# Altium schematic symbol library TAUV-Lib.SchLib: 493 symbols (part 2 of 5)
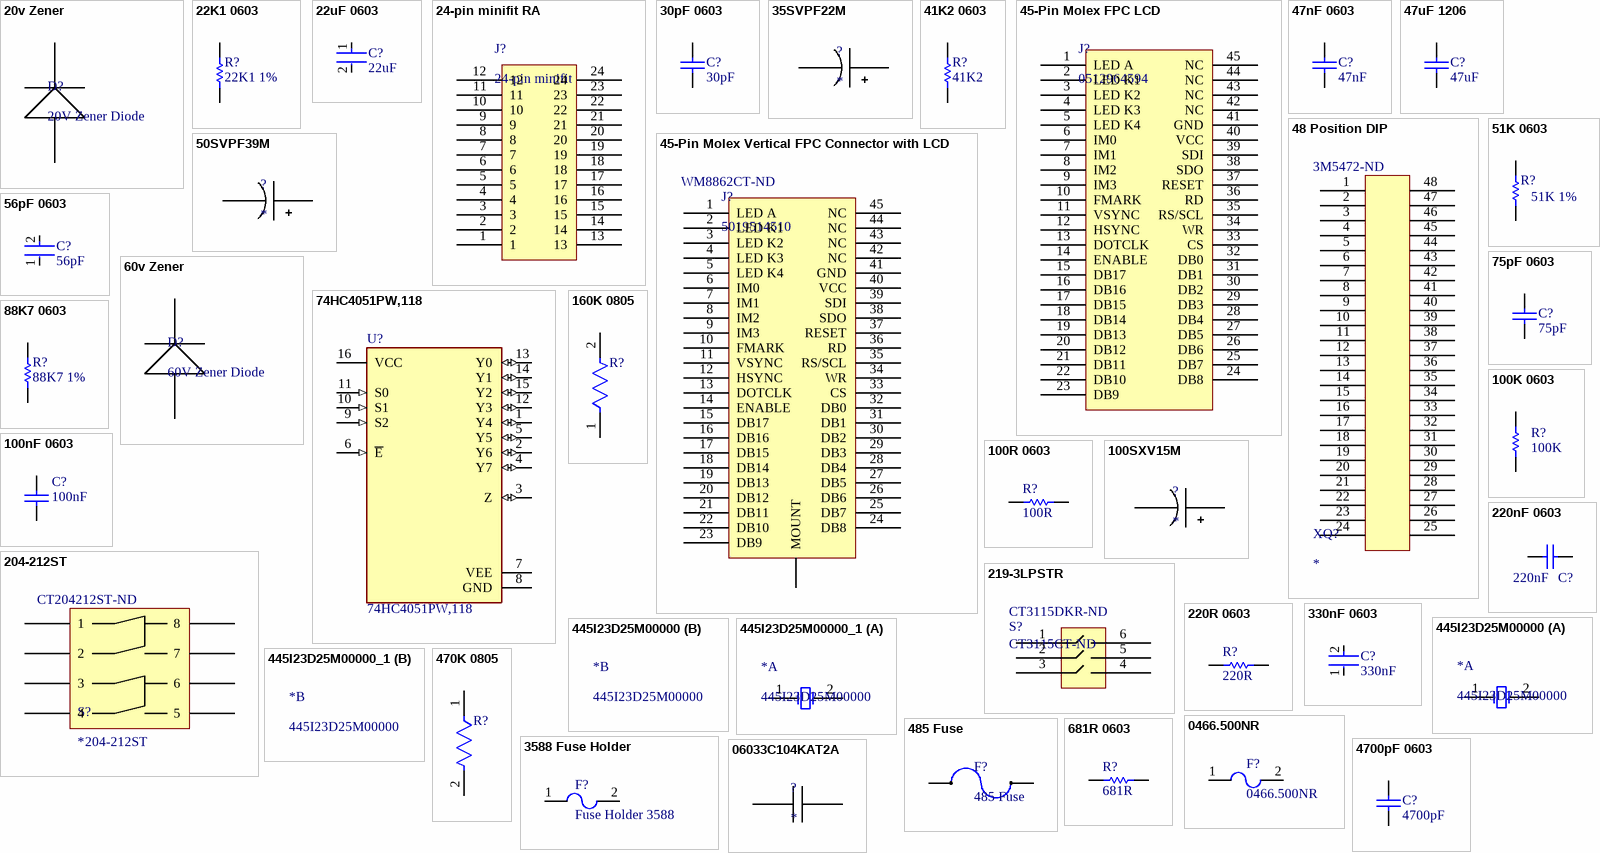
[diagram p15: symbols 20v Zener to 06033C104KAT2A]

## 220R 0603
designator R?, comment 220R
220R 0.1W 5% 0603 (1608 Metric)  SMD; Case-EIA: 0603; Case-Metric: 1608; Value: 220.00 Ohm; Technology: SMT; Power: 0.1 W; Tolerance: 5 %; ComponentLink1Description: Link; ComponentLink1URL: https://www.digikey.com/en/products/detail/te-connectivity-passive-product/CRGCQ0603J220R/8576689
footprint RESC0603(1608)_M (Chip Resistor, Body 1.6x0.8mm, IPC Low Density)
footprint RESC0603(1608)_N (Chip Resistor, Body 1.6x0.8mm, IPC Medium Density)
footprint RESC0603(1608)_L (Chip Resistor, Body 1.6x0.8mm, IPC High Density)
footprint 0603
pins: 1, 2
1 alternate drawing of the same symbol

## 330nF 0603
designator C?, comment 330nF
Multilayer Ceramic Capacitors 330nF ±10% 50V X7R SMD 0603; Capacitance: 330nF; Case Code (Imperial): 0603; Case Code (Metric): 1608; Dielectric: X7R; Length: 1.6mm; Construction: Flat; Resistor Type: Ceramic; Mount: Surface Mount; Voltage Rating: 50V; Packaging: Tape and Reel; Series: C; Case/Package: 0603; Lead Free: Lead Free; Tolerance: 10%; Voltage: 50V; REACH SVHC: No SVHC; Height: 0.8mm; Weight: 7.1E-05oz; Termination: SMD/SMT; Max Operating Temperature: 125°C; RoHS Compliant: Yes; Min Operating Temperature: -55°C; Depth: 0.8mm; Package Quantity: 1; Thickness: 0.037inch; Voltage Rating (DC): 50V; Dielectric Material: Ceramic; Width: 0.031inch; ComponentLink1Description: Link; ComponentLink1URL: https://www.digikey.com/en/products/detail/tdk-corporation/C1608X7R1H334K080AC/2443428
footprint FP-C1608-080-0_1-IPC_B
footprint FP-C1608-080-0_1-IPC_C
footprint FP-C1608-080-0_1-MFG
footprint FP-C1608-080-0_1-IPC_A
footprint 0603
pins: 1, 2

## 445I23D25M00000
designator *
CTS M445 2-SMT Crystal, 25MHz; Manufacturer: CTS-Frequency Controls; Supplier 1: Mouser; Supplier 2: Digi-Key; Supplier 3: Digi-Key; Supplier 4: Digi-Key; Frequency: 25 MHz; Part Number: 445I23D25M00000; Supplier 5: Digi-Key; Supplier 6: Mouser; Supplier 7: Digi-Key; Supplier 8: Digi-Key; Supplier Part Number 5: CTX1175TR-ND; Supplier Part Number 6: 774-445I23D25M00000; Supplier Part Number 7: CTX1175CT-ND; Supplier Part Number 8: CTX1175DKR-ND
footprint 445I23D25M00000 (2-SMD 5x3.2)
part A pins: 1, 2

## 445I23D25M00000_1
designator *, comment 445I23D25M00000
CTS M445 2-SMT Crystal, 25MHz; Manufacturer: CTS-Frequency Controls; Supplier 1: Mouser; Supplier 2: Digi-Key; Supplier 3: Digi-Key; Supplier 4: Digi-Key; Frequency: 25 MHz; Part Number: 445I23D25M00000; Supplier 5: Digi-Key; Supplier 6: Mouser; Supplier 7: Digi-Key; Supplier 8: Digi-Key; Supplier Part Number 5: CTX1175TR-ND; Supplier Part Number 6: 774-445I23D25M00000; Supplier Part Number 7: CTX1175CT-ND; Supplier Part Number 8: CTX1175DKR-ND
footprint 445I23D25M00000 (2-SMD 5x3.2)
part A pins: 1, 2

## 0466.500NR
designator F?
FUSE BOARD MOUNT 500MA 63VAC/VDC; Supplier: DigiKey; Part Number: 0466.500NR; Supplier Part Number: F1454CT-ND; Datasheet URL: http://www.littelfuse.com/~/media/electronics/datasheets/fuses/littelfuse_fuse_466_datasheet.pdf.pdf
footprint 0466.500NR (, 2-Leads, Body 3.18x1.52mm, IPC Medium Density)
pins: 1, 2

## 470K 0805
designator R?, comment 470K  (value not drawn)
RES Thick Film, 470kΩ, 1%, 0.125W, 100ppm/°C, 0805; Power Rating: 125mW; Voltage Rating (DC): 150V; Depth: 1.25mm; Voltage Rating: 150V; Composition: Thick Film; Temperature Coefficient: 100ppm/°C; Max Operating Temperature: 155°C; Min Operating Temperature: -55°C; Package Quantity: 10; Width: 0.049inch; Number of Pins: 2; Length: 2mm; Case Code (Metric): 2012; Weight: 0.000194oz; Features: Automotive AEC-Q200; Number of Terminations: 2; Radiation Hardening: No; Height: 0.45mm; Military Standard: Not; Tolerance: 1%; Lead Free: Lead Free; Termination: SMD/SMT; Case Code (Imperial): 0805; Case/Package: 0805; Contact Plating: Tin; Packaging: Tape and Reel; Max Power Dissipation: 125mW; ComponentLink1Description: Link; ComponentLink1URL: https://www.digikey.com/en/products/detail/yageo/RC0805FR-07470KL/727977
footprint FP-CRCW0805-e3-IPC_C
footprint FP-CRCW0805-e3-IPC_A
footprint FP-CRCW0805-e3-IPC_B
footprint FP-CRCW0805-e3-MFG
footprint 0805
pins: 1, 2

## 485 Fuse
designator F?
485 Series Fast-Blow Fuse; Part Number: 0485001.DR; Voltage Rating: 600V; Current Rating: 1A; Datasheet: http://www.littelfuse.com/~/media/electronics/datasheets/fuses/littelfuse_fuse_485_datasheet.pdf.pdf; Package: 2-SMD
footprint 485 Fuse (485 Series Fast-Blow Fuse)
pins: 1, 2

## 681R 0603
designator R?, comment 681R
681R 0.1W 1% 0603 (1608 Metric)  SMD; Value: 681.00 Ohm; Case-Metric: 1608; Case-EIA: 0603; Technology: SMT; Tolerance: 1 %; Power: 0.1 W; ComponentLink1Description: Link; ComponentLink1URL: https://www.digikey.com/en/products/detail/yageo/RC0603FR-07681RL/727357
footprint RESC0603(1608)_L (Chip Resistor, Body 1.6x0.8mm, IPC High Density)
footprint RESC0603(1608)_N (Chip Resistor, Body 1.6x0.8mm, IPC Medium Density)
footprint RESC0603(1608)_M (Chip Resistor, Body 1.6x0.8mm, IPC Low Density)
footprint 0603
pins: 1, 2
1 alternate drawing of the same symbol

## 3588 Fuse Holder
designator F?, comment Fuse Holder 3588
Keystone Electronics 3588; Supplier 1: Digi-Key; Supplier Part Number 1: 36-3588-ND; Datasheet: http://keyelco.com/userAssets/file/M65p43.pdf
footprint Fuse Holder 3588 (Keystone Electronics 3588 Automotive Blade Fuse Holder, SMT)
pins: 1, 2

## 4700pF 0603
designator C?, comment 4700pF
4700pF 0603; Part Number: GRM188R72A472KA01D; Manufacturer: Murata; ComponentLink1Description: Link; ComponentLink1URL: https://www.digikey.com/en/products/detail/walsin-technology-corporation/0603B472J500CT/9354937
footprint CAPC1608X90X35ML10T15 (Chip Capacitor, 2-Leads, Body 1.60x0.80mm, IPC Low Density)
footprint CAPC1608X90X35LL10T15 (Chip Capacitor, 2-Leads, Body 1.60x0.80mm, IPC High Density)
footprint CAPC1608X90X35NL10T15 (Chip Capacitor, 2-Leads, Body 1.60x0.80mm, IPC Medium Density)
footprint 0603
pins: 1, 2
1 alternate drawing of the same symbol

## 06033C104KAT2A
designator ?
No Description Available; Manufacturer_Part_Number: 06033C104KAT2A; Cap: 1.0E-7; ESR: 0.05; IRMS: 0.0; VDC: 25.0; Vendor: AVX; Manufacturer_Name: AVX; Copyright: Copyright (C) 2018 Accelerated Designs. All rights reserved; RefDes: RefDes; Type: DEV; Value: Value
footprint 0603
pins: 1, 2

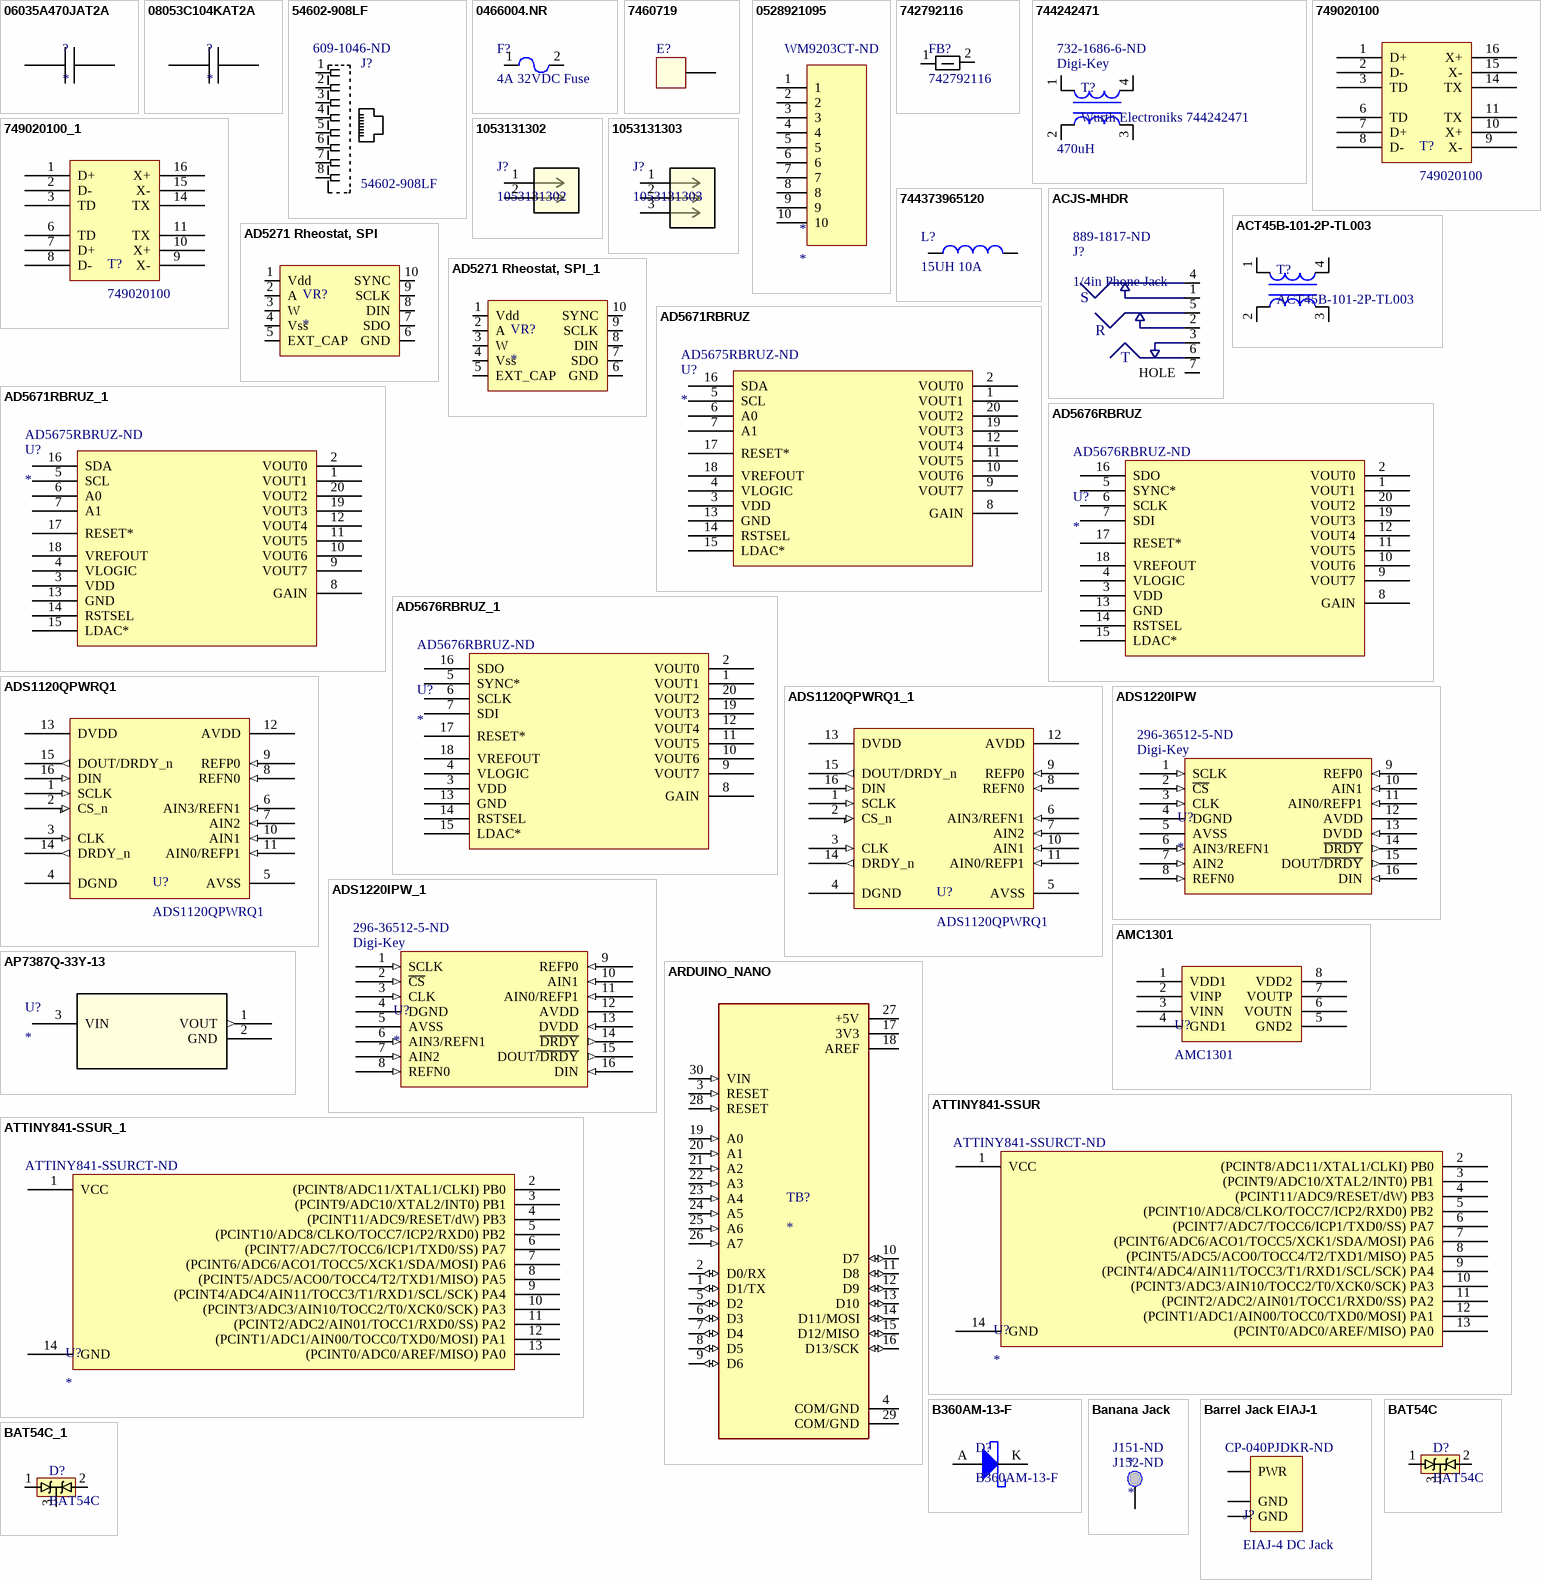
[diagram p3: symbols 06035A470JAT2A to BAT54C_1]

## 06035A470JAT2A
designator ?
No Description Available; Manufacturer_Part_Number: 06035A470JAT2A; Cap: 4.7E-11; ESR: 0.174; IRMS: 0.0; VDC: 50.0; Vendor: AVX; Manufacturer_Name: AVX; Copyright: Copyright (C) 2018 Accelerated Designs. All rights reserved; RefDes: RefDes; Type: DEV; Value: Value
footprint 0603
pins: 1, 2

## 08053C104KAT2A
designator ?
No Description Available; Manufacturer_Part_Number: 08053C104KAT2A; Cap: 1.0E-7; ESR: 0.28; IRMS: 0.0; VDC: 25.0; Vendor: AVX; Manufacturer_Name: AVX; Copyright: Copyright (C) 2018 Accelerated Designs. All rights reserved; RefDes: RefDes; Type: DEV; Value: Value
footprint 0805
pins: 1, 2

## 54602-908LF
designator J?  Supplier Part Number 1: 609-1046-ND
Conn Modular Jack F 8 POS 2.54mm Solder RA Thru-Hole 8 Terminal 1 Port Box Cat 3; MF: Amphenol FCI; Package: None; Digi-Key_Part_Number: 609-1046-ND; MP: 54602-908LF; SnapEDA_Link: https://www.snapeda.com/parts/54602-908LF/Amphenol%20FCI/view-part/?ref=snap; Digi-Key_Purchase_URL: https://www.digikey.com/product-detail/en/amphenol-fci/54602-908LF/609-1046-ND/1001360?utm_source=snapeda&utm_medium=aggregator&utm_campaign=symbol; Value: *; Supplier 1: Digi-Key
footprint AMPHENOL_54602-908LF
pins: 1, 2, 3, 4, 5, 6, 7, 8

## 0466004.NR
designator F?, comment 4A 32VDC Fuse
FUSE BOARD MNT 4A 32VAC/VDC 1206; ComponentLink1Description: Digikey; ComponentLink1URL: https://www.digikey.com/product-detail/en/littelfuse-inc/0466004.NR/F1459CT-ND/521357
footprint CAF-127P152X317-2N (Chip Array, Flat, 2-Leads, Pitch 1.27mm,  Body 1.52x3.18mm,  IPC Medium Density)
pins: 1, 2

## 7460719
designator E?
REDCUBE PRESS-FIT with external thread, full plain WP-SHFU, M8, 13 mm; Part Number: 7460719; Pin Number: 25; Rated Current: 250 A; Thread Length: 13 mm; ComponentLink1Description: Manufacturer; ComponentLink1URL: http://www.we-online.de; ComponentLink2Description: Datasheet; ComponentLink2URL: http://katalog.we-online.de/em/datasheet/7460719.pdf; Published Date: Feb. 2017; Publisher: Wurth Elektronik; Thread: M8
footprint 7460719 (M8, thread 13mm)
pins: 1

## 0528921095
designator *  Supplier Part Number 1: WM9203CT-ND
CONN FFC BOTTOM 10POS 0.50MM R/A; Manufacturer: Molex, LLC; Manufacturer Part Number: 0528921095; Flat Flex Type: FFC, FPC; Connector/Contact Type: Contacts, Bottom; Number of Positions: 10; Pitch: 0.020" (0.50mm); FFC, FCB Thickness: 0.30mm; Locking Feature: Flip Lock; Cable End Type: Straight, Tapered; Actuator Material: Polyphenylene Sulfide (PPS), Glass Filled; Voltage Rating: 50V; Material Flammability Rating: UL94 V-0; Current Rating: 0.5A; Supplier 1: Digi-Key; RoHS: RoHS Compliant; Category: Connectors, Interconnects; Stock 1: 767; Pricing 1: 1=0.97, 10=0.849, 25=0.7988, 50=0.7654, 100=0.7321, 250=0.66556, 500=0.59898 (USD); Packaging: Cut Tape (CT); Part Status: Obsolete; Mounting Type: Surface Mount, Right Angle; Termination: Solder; Height Above Board: 0.079" (2.00mm); Contact Material: Phosphor Bronze; Contact Finish: Tin Bismuth; Housing Material: Polyamide (PA46), Nylon 4/6; Features: Solder Retention, Zero Insertion Force (ZIF); Operating Temperature: -25°C ~ 85°C; ComponentLink1URL: http://www.molex.com/pdm_docs/sd/528921095_sd.pdf; ComponentLink1Description: http://www.molex.com/pdm_docs/sd/528921095_sd.pdf
footprint 0528921095
pins: 1, 2, 3, 4, 5, 6, 7, 8, 9, 10

## 742792116
designator FB?
FERRITE BEAD 500 OHM 1206 1LN; Datasheet URL: media.digikey.com/PDF/Data Sheets/Wurth Electronics PDFs/742792116.pdf; Supplier: DigiKey; Supplier Part Number: 732-4652-1-ND; Part Number: 742792116
footprint 742792116 (, 2-Leads, Body 3.20x1.60mm, IPC Medium Density)
pins: 1, 2

## 744242471
designator T?, comment Wurth Electroniks 744242471  Inductance: 470uH  Supplier 1: Digi-Key  Supplier Part Number 1: 732-1686-6-ND
470µH @ 100kHz 2 Line Common Mode Choke Surface Mount 2.2 kOhms @ 15MHz 400mA DCR 350 mOhm; ComponentLink1Description: Digikey Link; ComponentLink1URL: https://www.digikey.com/product-detail/en/wurth-electronics-inc/744242471/732-1686-1-ND/1994266; ComponentLink2Description: Datasheet Link; ComponentLink2URL: https://katalog.we-online.de/pbs/datasheet/744242471.pdf
footprint Wurth 744242471
pins: 1, 2, 3, 4

## 749020100
designator T?
10/100/1000 SMD LAN Transformer; Manufacturer: Wurth; Part Number: 749020100; Supplier 1: Digi-Key; Supplier Part Number 1: 732-3268-1-ND
footprint 749020100 (10/100/1000 SMD LAN Transformer)
pins: 1 D+, 2 D-, 3 TD, 6 TD, 7 D+, 8 D-, 9 X-, 10 X+, 11 TX, 14 TX, 15 X-, 16 X+

## 749020100_1
designator T?, comment 749020100
10/100/1000 SMD LAN Transformer; Manufacturer: Wurth; Part Number: 749020100; Supplier 1: Digi-Key; Supplier Part Number 1: 732-3268-1-ND
footprint 749020100 (10/100/1000 SMD LAN Transformer)
pins: 1 D+, 2 D-, 3 TD, 6 TD, 7 D+, 8 D-, 9 X-, 10 X+, 11 TX, 14 TX, 15 X-, 16 X+

## 1053131302
designator J?
No Description Available; Mfr_Name: Molex Connector Corporation; Copyright: Copyright (C) 2022 Ultra Librarian. All rights reserved.; Manufacturer_Part_Number: 1053131302; RefDes: RefDes; Type: DEV
footprint CON_1053131302
pins: 1, 2

## 1053131303
designator J?
No Description Available; Mfr_Name: Molex Connector Corporation; Copyright: Copyright (C) 2022 Ultra Librarian. All rights reserved.; Manufacturer_Part_Number: 1053131303; RefDes: RefDes; Type: DEV
footprint CON_1053131303
pins: 1, 2, 3

## 744373965120
designator L?, comment 15UH 10A
FIXED IND 15UH 10A 11.3 MOHM; ComponentLink1URL: http://www.bourns.com/docs/Product-Datasheets/SRP5030TA.pdf; ComponentLink1Description: http://www.bourns.com/docs/Product-Datasheets/SRP5030TA.pdf; Supplier 1: Digi-Key; Supplier Part Number 1: 732-10717-1-ND
footprint 744373965120
pins: 1, 2

## ACJS-MHDR
designator J?, comment 1/4in Phone Jack  Supplier Part Number 1: 889-1817-ND
Supplier 1: Digi-Key
footprint ACJS-MHDR
pins: 1, 2, 3, 4, 5, 6, 7 HOLE
text: S; R; T

## ACT45B-101-2P-TL003
designator T?
Common Mode Chokes / Filters 5000ohms 100uH 150mA CAN-BUS AEC-Q200; Supplier: DigiKey; Supplier Part Number: 445-3959-1-ND; Part Number: ACT45B-101-2P-TL003; Datasheet URL: www.mouser.com/ds/2/400/e9711_act-469477.pdf
footprint ACT45B-101-2P-TL003 (DFN, 4-Leads, Body 3.20x4.50mm, Pitch 4.55mm, IPC Medium Density)
pins: 1, 2, 3, 4

## AD5271 Rheostat, SPI
designator VR?
100k Digital Rheostat, 256 Pos, 1% Tolerance; Part Number: AD5271BRMZ-100; Temp (C) (min): -40; Temp (C) (max): 125; Package: MSOP-10; Nominal Resistance: 100k; Datasheet URL: http://www.analog.com/media/en/technical-documentation/data-sheets/AD5270_5271.pdf; Supplier 1: Digi-Key; Supplier Part Number 1: AD5271BRMZ-100-ND
footprint 10-Lead MSOP (used for AD5271BRMZ)
pins: 1 Vdd (power), 2 A, 3 W, 4 Vss, 5 EXT_CAP, 6 GND (power), 7 SDO, 8 DIN, 9 SCLK, 10 SYNC

## AD5271 Rheostat, SPI_1
designator VR?
100k Digital Rheostat, 256 Pos, 1% Tolerance; Part Number: AD5271BRMZ-100; Temp (C) (min): -40; Temp (C) (max): 125; Package: MSOP-10; Nominal Resistance: 100k; Datasheet URL: http://www.analog.com/media/en/technical-documentation/data-sheets/AD5270_5271.pdf; Supplier 1: Digi-Key; Supplier Part Number 1: AD5271BRMZ-100-ND
footprint 10-Lead MSOP (used for AD5271BRMZ)
pins: 1 Vdd (power), 2 A, 3 W, 4 Vss, 5 EXT_CAP, 6 GND (power), 7 SDO, 8 DIN, 9 SCLK, 10 SYNC

## AD5671RBRUZ
designator U?  Supplier Part Number 1: AD5675RBRUZ-ND
IC DAC 16BIT I2C/SRL 20TSSOP; Value: Value; Type: Type; RefDes: RefDes; Supplier 1: Digi-Key
footprint RU_20
pins: 1 VOUT1, 2 VOUT0, 3 VDD, 4 VLOGIC, 5 SCL, 6 A0, 7 A1, 8 GAIN, 9 VOUT7, 10 VOUT6, 11 VOUT5, 12 VOUT4, 13 GND, 14 RSTSEL, 15 LDAC*, 16 SDA, 17 RESET*, 18 VREFOUT, 19 VOUT3, 20 VOUT2

## AD5671RBRUZ_1
designator U?  Supplier Part Number 1: AD5675RBRUZ-ND
IC DAC 16BIT I2C/SRL 20TSSOP; Value: Value; Type: Type; RefDes: RefDes; Supplier 1: Digi-Key
footprint RU_20
pins: 1 VOUT1, 2 VOUT0, 3 VDD, 4 VLOGIC, 5 SCL, 6 A0, 7 A1, 8 GAIN, 9 VOUT7, 10 VOUT6, 11 VOUT5, 12 VOUT4, 13 GND, 14 RSTSEL, 15 LDAC*, 16 SDA, 17 RESET*, 18 VREFOUT, 19 VOUT3, 20 VOUT2

## AD5676RBRUZ
designator U?  Supplier Part Number 1: AD5676RBRUZ-ND
IC DAC 16BIT SPI 20TSSOP; Supplier 1: Digi-Key
footprint RU_20
pins: 1 VOUT1, 2 VOUT0, 3 VDD, 4 VLOGIC, 5 SYNC*, 6 SCLK, 7 SDI, 8 GAIN, 9 VOUT7, 10 VOUT6, 11 VOUT5, 12 VOUT4, 13 GND, 14 RSTSEL, 15 LDAC*, 16 SDO, 17 RESET*, 18 VREFOUT, 19 VOUT3, 20 VOUT2

## AD5676RBRUZ_1
designator U?  Supplier Part Number 1: AD5676RBRUZ-ND
IC DAC 16BIT SPI 20TSSOP; Supplier 1: Digi-Key
footprint RU_20
pins: 1 VOUT1, 2 VOUT0, 3 VDD, 4 VLOGIC, 5 SYNC*, 6 SCLK, 7 SDI, 8 GAIN, 9 VOUT7, 10 VOUT6, 11 VOUT5, 12 VOUT4, 13 GND, 14 RSTSEL, 15 LDAC*, 16 SDO, 17 RESET*, 18 VREFOUT, 19 VOUT3, 20 VOUT2

## ADS1120QPWRQ1
designator U?
16 bit SPI controlled ADC; Manufacturer: Texas Instruments; Part Number: ADS1120QPWRQ1; Datasheet Link: http://www.ti.com/lit/ds/symlink/ads1120-q1.pdf; Supplier 1: Digi-Key; Supplier Part Number 1: 296-39850-1-ND
footprint TSOP65P640X120-16N (TSOP, 16-Leads, Body 5.00x4.40mm, Pitch 0.65mm, IPC Medium Density)
pins: 1 SCLK (in), 2 CS_n (in), 3 CLK (in), 4 DGND (power), 5 AVSS (power), 6 AIN3/REFN1 (in), 7 AIN2 (in), 8 REFN0 (in), 9 REFP0 (in), 10 AIN1 (in), 11 AIN0/REFP1 (in), 12 AVDD (power), 13 DVDD (power), 14 DRDY_n (out), 15 DOUT/DRDY_n (out), 16 DIN (in)

## ADS1120QPWRQ1_1
designator U?, comment ADS1120QPWRQ1
16 bit SPI controlled ADC; Manufacturer: Texas Instruments; Part Number: ADS1120QPWRQ1; Datasheet Link: http://www.ti.com/lit/ds/symlink/ads1120-q1.pdf; Supplier 1: Digi-Key; Supplier Part Number 1: 296-39850-1-ND
footprint TSOP65P640X120-16N (TSOP, 16-Leads, Body 5.00x4.40mm, Pitch 0.65mm, IPC Medium Density)
pins: 1 SCLK (in), 2 CS_n (in), 3 CLK (in), 4 DGND (power), 5 AVSS (power), 6 AIN3/REFN1 (in), 7 AIN2 (in), 8 REFN0 (in), 9 REFP0 (in), 10 AIN1 (in), 11 AIN0/REFP1 (in), 12 AVDD (power), 13 DVDD (power), 14 DRDY_n (out), 15 DOUT/DRDY_n (out), 16 DIN (in)

## ADS1220IPW
designator U?  Supplier 1: Digi-Key  Supplier Part Number 1: 296-36512-5-ND
footprint ADS1220IPW
pins: 1 SCLK (in), 2 ~{CS} (in), 3 CLK (in), 4 DGND (power), 5 AVSS (power), 6 AIN3/REFN1 (in), 7 AIN2 (in), 8 REFN0 (in), 9 REFP0 (in), 10 AIN1 (in), 11 AIN0/REFP1 (in), 12 AVDD (power), 13 DVDD (in), 14 ~{DRDY} (out), 15 DOUT~{/DRDY} (out), 16 DIN (in)

## ADS1220IPW_1
designator U?  Supplier 1: Digi-Key  Supplier Part Number 1: 296-36512-5-ND
footprint ADS1220IPW
pins: 1 SCLK (in), 2 ~{CS} (in), 3 CLK (in), 4 DGND (power), 5 AVSS (power), 6 AIN3/REFN1 (in), 7 AIN2 (in), 8 REFN0 (in), 9 REFP0 (in), 10 AIN1 (in), 11 AIN0/REFP1 (in), 12 AVDD (power), 13 DVDD (in), 14 ~{DRDY} (out), 15 DOUT~{/DRDY} (out), 16 DIN (in)

## AMC1301
designator U?
IC AMP ISOLATION 250MV 8SOIC; Supplier 1: Digi-Key; Supplier Part Number 1: 296-44577-2-ND
footprint SOIC127P1150X280-8N (SOIC, 8-Leads, Body 5.85x7.50mm, Pitch 1.27mm, IPC Medium Density)
pins: 1 VDD1, 2 VINP, 3 VINN, 4 GND1, 5 GND2, 6 VOUTN, 7 VOUTP, 8 VDD2

## AP7387Q-33Y-13
designator U?
No Description Available; Mfr_Name: onsemi; RefDes: RefDes; Type: Type
footprint SOT-89-3_2P7X4P7_ONS
pins: 1 VOUT (out), 2 GND (power), 3 VIN

## ARDUINO_NANO
designator TB?
Small, complete, and breadboard-friendly board based on the ATmega328 (Arduino Nano 3.x); Check_prices: https://www.snapeda.com/parts/Arduino%20Nano/Arduino/view-part/?ref=eda; Value: *; Availability: Not in stock; MP: Arduino Nano; Price: None; Package: Non-Standard Arduino; SnapEDA_Link: https://www.snapeda.com/parts/Arduino%20Nano/Arduino/view-part/?ref=snap; MF: Arduino
footprint SHIELD_ARDUINO_NANO
pins: 1 D1/TX (io), 2 D0/RX (io), 3 RESET (in), 4 COM/GND (power), 5 D2 (io), 6 D3 (io), 7 D4 (io), 8 D5 (io), 9 D6 (io), 10 D7 (io), 11 D8 (io), 12 D9 (io), 13 D10 (io), 14 D11/MOSI (io), 15 D12/MISO (io), 16 D13/SCK (io), 17 3V3 (power), 18 AREF (power), 19 A0 (in), 20 A1 (in), 21 A2 (in), 22 A3 (in), 23 A4 (in), 24 A5 (in), 25 A6 (in), 26 A7 (in), 27 +5V (power), 28 RESET (in), 29 COM/GND (power), 30 VIN (in)

## ATTINY841-SSUR
designator U?  Supplier Part Number 1: ATTINY841-SSURCT-ND
IC MCU 8BIT 8KB FLASH 14SOIC; Supplier 1: Digi-Key
footprint SOIC127P600X175-14N-841 (SOIC, 14-Leads, Body 8.65x3.90mm, Pitch 1.27mm, IPC Medium Density)
pins: 1 VCC, 2 (PCINT8/ADC11/XTAL1/CLKI) PB0, 3 (PCINT9/ADC10/XTAL2/INT0) PB1, 4 (PCINT11/ADC9/RESET/dW) PB3, 5 (PCINT10/ADC8/CLKO/TOCC7/ICP2/RXD0) PB2, 6 (PCINT7/ADC7/TOCC6/ICP1/TXD0/SS) PA7, 7 (PCINT6/ADC6/ACO1/TOCC5/XCK1/SDA/MOSI) PA6, 8 (PCINT5/ADC5/ACO0/TOCC4/T2/TXD1/MISO) PA5, 9 (PCINT4/ADC4/AIN11/TOCC3/T1/RXD1/SCL/SCK) PA4, 10 (PCINT3/ADC3/AIN10/TOCC2/T0/XCK0/SCK) PA3, 11 (PCINT2/ADC2/AIN01/TOCC1/RXD0/SS) PA2, 12 (PCINT1/ADC1/AIN00/TOCC0/TXD0/MOSI) PA1, 13 (PCINT0/ADC0/AREF/MISO) PA0, 14 GND

## ATTINY841-SSUR_1
designator U?  Supplier Part Number 1: ATTINY841-SSURCT-ND
IC MCU 8BIT 8KB FLASH 14SOIC; Supplier 1: Digi-Key
footprint SOIC127P600X175-14N-841 (SOIC, 14-Leads, Body 8.65x3.90mm, Pitch 1.27mm, IPC Medium Density)
pins: 1 VCC, 2 (PCINT8/ADC11/XTAL1/CLKI) PB0, 3 (PCINT9/ADC10/XTAL2/INT0) PB1, 4 (PCINT11/ADC9/RESET/dW) PB3, 5 (PCINT10/ADC8/CLKO/TOCC7/ICP2/RXD0) PB2, 6 (PCINT7/ADC7/TOCC6/ICP1/TXD0/SS) PA7, 7 (PCINT6/ADC6/ACO1/TOCC5/XCK1/SDA/MOSI) PA6, 8 (PCINT5/ADC5/ACO0/TOCC4/T2/TXD1/MISO) PA5, 9 (PCINT4/ADC4/AIN11/TOCC3/T1/RXD1/SCL/SCK) PA4, 10 (PCINT3/ADC3/AIN10/TOCC2/T0/XCK0/SCK) PA3, 11 (PCINT2/ADC2/AIN01/TOCC1/RXD0/SS) PA2, 12 (PCINT1/ADC1/AIN00/TOCC0/TXD0/MOSI) PA1, 13 (PCINT0/ADC0/AREF/MISO) PA0, 14 GND

## B360AM-13-F
designator D?
Schottky Diode B360AM-13-F; Datasheet: http://diodes.com/_files/datasheets/B360AM.pdf; Supplier 1: Digi-Key; Supplier Part Number 1: B360AM-13-FDICT-ND
footprint B360AM-13-F
pins: A, K

## Banana Jack
designator *  Supplier Part Number 1: J152-ND  Supplier Part Number 2: J151-ND
Supplier 1: Digi-Key; Supplier 2: Digi-Key
footprint BANANA JACK (BANANA JACK 8mm HOLE)
pins: 1

## Barrel Jack EIAJ-1
designator J?, comment EIAJ-4 DC Jack  Supplier Part Number 1: CP-040PJDKR-ND
DC Power Jack; Current Rating: 1A; Voltage Rating: 16V; Datasheet: http://www.cui.com/product/resource/pj-040-smt.pdf; Supplier 1: Digi-Key
footprint DC Barrel Jack (16V 1A DC Barrel Jack)
pins: 1 PWR, 2 GND, 3 GND

## BAT54C
designator D?
Schottky Barrier Diode BAT54C; Temp (C) (min): -40; Temp (C) (max): 85; Package: SOT23; Datasheet URL: http://www.nxp.com/documents/data_sheet/BAT54_SER.pdf; Part Number: BAT54C; Supplier 1: Digi-Key; Supplier Part Number 1: 568-11590-1-ND
footprint SOT23 (used with BAT54C diode array)
pins: 1 Cathode Diode 1, 2 Cathode Diode 2, 3 Common

## BAT54C_1
designator D?, comment BAT54C
Schottky Barrier Diode BAT54C; Temp (C) (min): -40; Temp (C) (max): 85; Package: SOT23; Datasheet URL: http://www.nxp.com/documents/data_sheet/BAT54_SER.pdf; Part Number: BAT54C; Supplier 1: Digi-Key; Supplier Part Number 1: 568-11590-1-ND
footprint SOT23 (used with BAT54C diode array)
pins: 1 Cathode Diode 1, 2 Cathode Diode 2, 3 Common

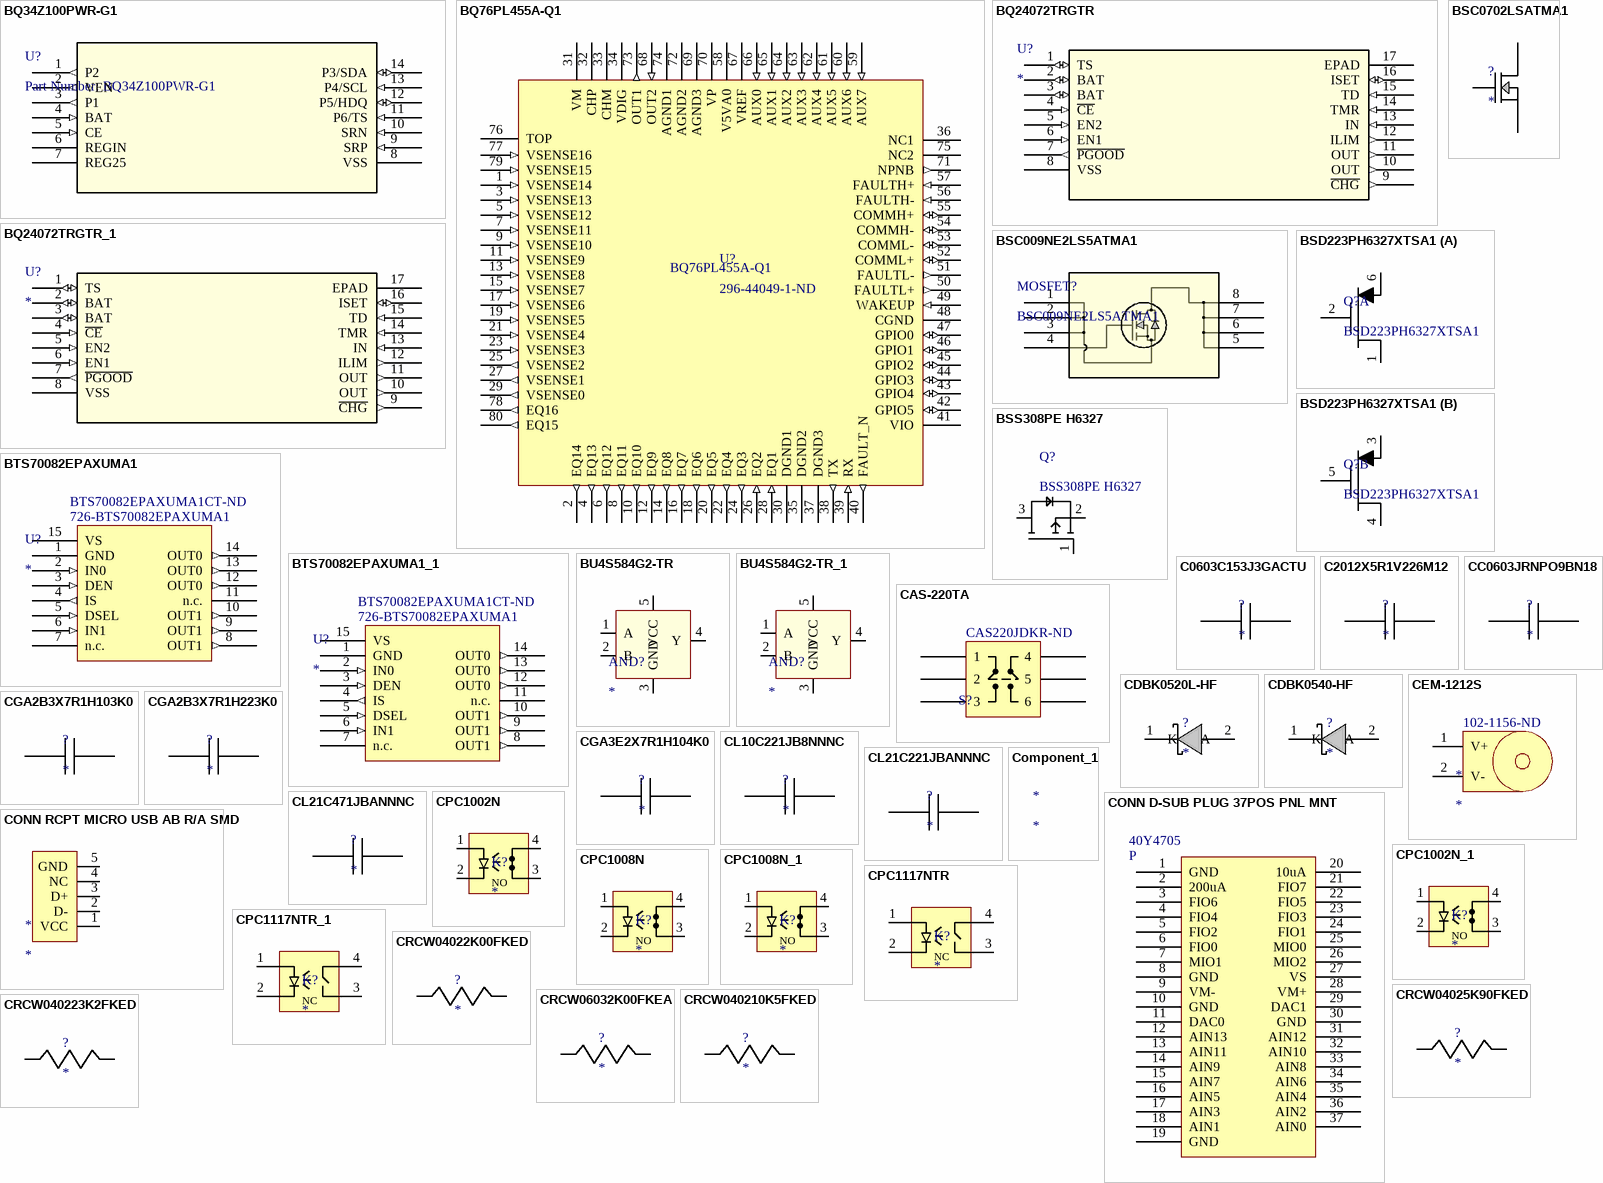
[diagram p4: symbols BQ34Z100PWR-G1 to CRCW040223K2FKED]

## BQ34Z100PWR-G1
designator U?, comment Part Number: BQ34Z100PWR-G1
No Description Available; Vendor: Texas Instruments; Built_By: EMA_UL_Team; Manufacturer_Part_Number: BQ34Z100PWR-G1; Copyright: Copyright (C) 2018 Accelerated Designs. All rights reserved; RefDes: RefDes; Type: DEV; Value: Value
footprint PW14
pins: 1 P2 (out), 2 VEN (out), 3 P1 (out), 4 BAT (in), 5 CE (in), 6 REGIN (power), 7 REG25 (power), 8 VSS (power), 9 SRP (in), 10 SRN (in), 11 P6/TS (in), 12 P5/HDQ (io), 13 P4/SCL (in), 14 P3/SDA (io)

## BQ76PL455A-Q1
designator U?, comment 296-44049-1-ND
IC BATT MONITOR/PROTECT 80TQFP; Part Number: BQ76PL455ATPFCRQ1; Supplier: DigiKey; Datasheet URL: http://www.ti.com/lit/ds/symlink/bq76pl455a-q1.pdf; Design Recommendations: http://www.ti.com/lit/an/slua791/slua791.pdf; Supplier Part Number: 6-44049-1-ND
footprint BQ76PL455A-Q1 (TSQFP, 80-Leads, Body 12.00x12.00mm, Pitch 0.50mm, IPC Medium Density)
pins: 1 VSENSE14 (in), 2 EQ14 (out), 3 VSENSE13 (in), 4 EQ13 (out), 5 VSENSE12 (in), 6 EQ12 (out), 7 VSENSE11 (in), 8 EQ11 (out), 9 VSENSE10 (in), 10 EQ10 (out), 11 VSENSE9 (in), 12 EQ9 (out), 13 VSENSE8 (in), 14 EQ8 (out), 15 VSENSE7 (in), 16 EQ7 (out), 17 VSENSE6 (in), 18 EQ6 (out), 19 VSENSE5 (in), 20 EQ5 (out), 21 VSENSE4 (in), 22 EQ4 (out), 23 VSENSE3 (in), 24 EQ3 (out), 25 VSENSE2 (out), 26 EQ2 (in), 27 VSENSE1 (out), 28 EQ1 (in), 29 VSENSE0 (out), 30 DGND1 (power), 31 VM (power), 32 CHP (power), 33 CHM (power), 34 VDIG (power), 35 DGND2 (power), 36 NC1, 37 DGND3 (power), 38 TX (out), 39 RX (in), 40 FAULT_N (out), 41 VIO (power), 42 GPIO5 (io), 43 GPIO4 (io), 44 GPIO3 (io), 45 GPIO2 (io), 46 GPIO1 (io), 47 GPIO0 (io), 48 CGND (power), 49 WAKEUP (in), 50 FAULTL+ (out), 51 FAULTL- (out), 52 COMML+ (io), 53 COMML- (io), 54 COMMH- (io), 55 COMMH+ (io), 56 FAULTH- (in), 57 FAULTH+ (in), 58 V5VA0 (power), 59 AUX7 (in), 60 AUX6 (in), 61 AUX5 (in), 62 AUX4 (in), 63 AUX3 (in), 64 AUX2 (in), 65 AUX1 (in), 66 AUX0 (in), 67 VREF (power), 68 OUT2 (in), 69 AGND3 (power), 70 VP (power), 71 NPNB (out), 72 AGND2 (power), 73 OUT1 (out), 74 AGND1 (power), 75 NC2, 76 TOP (power), 77 VSENSE16 (in), 78 EQ16 (out), 79 VSENSE15 (in), 80 EQ15 (out)

## BQ24072TRGTR
designator U?
Imported; Manufacturer: Texas Instruments; Manufacturer_Part_Number: BQ24072TRGTR; Built_By: EMA_UL_Team; C: Copyright (C) 2015 Accelerated Designs. All rights reserved; Vendor: Vendor; RefDes: RefDes; Type: DEV; Value: Value
footprint RGT16_1P7X1P7
pins: 1 TS (io), 2 BAT (io), 3 BAT (io), 4 ~{CE} (in), 5 EN2 (in), 6 EN1 (in), 7 ~{PGOOD} (out), 8 VSS (power), 9 ~{CHG} (out), 10 OUT (out), 11 OUT (out), 12 ILIM (out), 13 IN (in), 14 TMR (in), 15 TD (in), 16 ISET (io), 17 EPAD (power)

## BQ24072TRGTR_1
designator U?
Imported; Manufacturer: Texas Instruments; Manufacturer_Part_Number: BQ24072TRGTR; Built_By: EMA_UL_Team; C: Copyright (C) 2015 Accelerated Designs. All rights reserved; Vendor: Vendor; RefDes: RefDes; Type: DEV; Value: Value
footprint RGT16_1P7X1P7
pins: 1 TS (io), 2 BAT (io), 3 BAT (io), 4 ~{CE} (in), 5 EN2 (in), 6 EN1 (in), 7 ~{PGOOD} (out), 8 VSS (power), 9 ~{CHG} (out), 10 OUT (out), 11 OUT (out), 12 ILIM (out), 13 IN (in), 14 TMR (in), 15 TD (in), 16 ISET (io), 17 EPAD (power)

## BSC009NE2LS5ATMA1
designator MOSFET?
No Description Available; Mfr_Name: Infineon; Copyright: Copyright (C) 2022 Ultra Librarian. All rights reserved.; Manufacturer_Part_Number: BSC009NE2LS5ATMA1; Digi-Key_Part_Number_1: BSC009NE2LS5ATMA1TR-ND; Digi-Key_Part_Number_2: BSC009NE2LS5ATMA1CT-ND; Digi-Key_Part_Number_3: BSC009NE2LS5ATMA1DKR-ND; RefDes: RefDes; Type: DEV
footprint PG-TDSON-8-1_INF
footprint UHEMA_36_ADI
pins: 1, 2, 3, 4, 5, 6, 7, 8

## BSC0702LSATMA1
designator ?
No Description Available; Manufacturer_Part_Number: CSD18537NQ5A; VdsMax: 60.0; IdsMax: 50.0; Rdson45: 0.014559; QgTyp: 14.0; Vendor: Texas Instruments; Datasheet_URL: http://www.ti.com/lit/ds/symlink/csd18537nq5a.pdf; Quantity: 1; Manufacturer_Name: Texas Instruments; Copyright: Copyright (C) 2018 Accelerated Designs. All rights reserved; RefDes: RefDes; TYPE: TYPE; Value: Value
footprint TRANS_NexFET_Q5A
pins: 1 Source, 2 Source, 3 Source, 4 Gate, 5 Drain, 6 Drain, 7 Drain, 8 Drain, 9 Drain

## BSD223PH6327XTSA1
designator Q?
dual p-channel mosfet; Manufacturer 1: Infineon; Drain to Source Voltage (Vdss): -20V; Continuous Drain Current (ID): 390mA; Rds On Max: 1.2R; Input Capacitance: 56pF; Max Power Dissipation: 250mW; Turn-On Delay Time: 3.8ns; Rise Time: 5ns; Turn-Off Delay Time: 5.1ns; Gate to Source Voltage (Vgs): 12V; Supplier 1: Digi-Key; Supplier Part Number 1: BSD223PH6327XTSA1CT-ND; Manufacturer Part Number 1: BSD223PH6327XTSA1; Stock 1: 77806; Pricing 1: 1=0.56, 10=0.398, 100=0.2615, 500=0.1545, 1000=0.1189 (USD); Mount: Surface Mount; Case/Package: SOT-363; Number of Pins: 6; Min Operating Temperature: -55°C; Max Operating Temperature: 150°C; Packaging: Tape and Reel; Drain to Source Resistance: 1.2R; Max Dual Supply Voltage: -20V; Length: 2mm; Height: 0.8mm; Width: 1.25mm; Lead Free: Lead Free; Halogen Free: Halogen Free; ComponentLink1URL: http://www.farnell.com/datasheets/2211530.pdf; ComponentLink1Description: http://www.farnell.com/datasheets/2211530.pdf; ComponentLink2URL: http://components.arrow.com/part/dataview/53770121S151981N2051; ComponentLink2Description: http://components.arrow.com/part/dataview/53770121S151981N2051; ComponentLink3URL: https://www.infineon.com/dgdl/BSD223P_Rev1.5.pdf?folderId=db3a304314dca38901154a72e3951a65&fileId=db3a30433580b37101358619d0af33b9; ComponentLink3Description: https://www.infineon.com/dgdl/BSD223P_Rev1.5.pdf?folderId=db3a304314dca38901154a72e3951a65&fileId=db3a30433580b37101358619d0af33b9; ComponentLink4URL: http://www.infineon.com/dgdl/Infineon-BSD223P-DS-v01_06-EN.pdf?fileId=5546d4624b0b249c014b3607ad2610c8; ComponentLink4Description: http://www.infineon.com/dgdl/Infineon-BSD223P-DS-v01_06-EN.pdf?fileId=5546d4624b0b249c014b3607ad2610c8; ComponentLink5URL: http://www.infineon.com/dgdl/BSD223P_Rev1.5.pdf?folderId=db3a304314dca38901154a72e3951a65&fileId=db3a30433580b37101358619d0af33b9; ComponentLink5Description: http://www.infineon.com/dgdl/BSD223P_Rev1.5.pdf?folderId=db3a304314dca38901154a72e3951a65&fileId=db3a30433580b37101358619d0af33b9
footprint PG-SOT-363 (SOT23, 6-Leads, Body 2.00x2.15mm, Pitch 0.65mm, IPC Medium Density)
part A pins: 1, 2, 6
part B pins: 3, 4, 5

## BSS308PE H6327
designator Q?
MOSFET P-Ch -30V -2A SOT-23-3; Supplier: Mouser; Part Number: BSS308PE H6327; Supplier Part Number: 726-BSS308PEH6327; Datasheet URL: http://www.mouser.com/ds/2/196/BSS308PE_Rev2.03_-88579.pdf
pins: 1, 2, 3

## BTS70082EPAXUMA1
designator U?  Supplier Part Number 1: 726-BTS70082EPAXUMA1  Supplier Part Number 2: BTS70082EPAXUMA1CT-ND
IC HIGH SIDE PWR SWITCH 14TSOP; Supplier 1: Mouser; Supplier 2: Digi-Key
footprint BTS70082EPAXUMA1CT (TSOP, 14-Leads, Body 4.90x3.90mm, Pitch 0.65mm, Thermal Pad 4.00x2.65mm, IPC Medium Density)
pins: 1 GND (power), 2 IN0 (in), 3 DEN (in), 4 IS (out), 5 DSEL (in), 6 IN1 (in), 7 n.c. (hiz), 8 OUT1 (out), 9 OUT1 (out), 10 OUT1 (out), 11 n.c. (hiz), 12 OUT0 (out), 13 OUT0 (out), 14 OUT0 (out), 15 VS (power)

## BTS70082EPAXUMA1_1
designator U?  Supplier Part Number 1: 726-BTS70082EPAXUMA1  Supplier Part Number 2: BTS70082EPAXUMA1CT-ND
IC HIGH SIDE PWR SWITCH 14TSOP; Supplier 1: Mouser; Supplier 2: Digi-Key
footprint BTS70082EPAXUMA1CT (TSOP, 14-Leads, Body 4.90x3.90mm, Pitch 0.65mm, Thermal Pad 4.00x2.65mm, IPC Medium Density)
pins: 1 GND (power), 2 IN0 (in), 3 DEN (in), 4 IS (out), 5 DSEL (in), 6 IN1 (in), 7 n.c. (hiz), 8 OUT1 (out), 9 OUT1 (out), 10 OUT1 (out), 11 n.c. (hiz), 12 OUT0 (out), 13 OUT0 (out), 14 OUT0 (out), 15 VS (power)

## BU4S584G2-TR
designator AND?
footprint SOTFL95P280X125-5N (SOTFL, 5-Leads, Body 2.90x2.80mm, Pitch 0.95mm, IPC Medium Density)
pins: 1 A, 2 B, 3 GND, 4 Y, 5 VCC

## BU4S584G2-TR_1
designator AND?
footprint SOTFL95P280X125-5N (SOTFL, 5-Leads, Body 2.90x2.80mm, Pitch 0.95mm, IPC Medium Density)
pins: 1 A, 2 B, 3 GND, 4 Y, 5 VCC

## C0603C153J3GACTU
designator ?
No Description Available; Manufacturer_Part_Number: C0603C153J3GACTU; Cap: 1.5E-8; ESR: 0.0; VDC: 25.0; Vendor: Kemet; Datasheet_URL: http://www.kemet.com/docfinder?Partnumber%3DC0603C153J3GACTU; IRMS: 0.0; Manufacturer_Name: Kemet; Copyright: Copyright (C) 2018 Accelerated Designs. All rights reserved; RefDes: RefDes; Type: DEV; Value: Value
footprint 0603
pins: 1, 2

## C2012X5R1V226M12
designator ?
No Description Available; Manufacturer_Part_Number: C2012X5R1V226M125AC; Cap: 2.2E-5; ESR: 0.00205; IRMS: 4.55587; VDC: 35.0; Vendor: TDK; Datasheet_URL: https://product.tdk.com/en/search/capacitor/ceramic/mlcc/info?part%5Fno%3DC2012X5R1V226M125AC; Manufacturer_Name: TDK; Copyright: Copyright (C) 2018 Accelerated Designs. All rights reserved; RefDes: RefDes; Type: DEV; Value: Value
footprint 0805
pins: 1, 2

## CAS-220TA
designator S?  Supplier Part Number 1: CAS220JDKR-ND  (hidden comment: *)
SWITCH SLIDE DPDT 100MA 6V; Supplier 1: Digi-Key
footprint CAS-220
pins: 1, 2, 3, 4, 5, 6

## CC0603JRNPO9BN18
designator ?
No Description Available; Manufacturer_Part_Number: CC0603JRNPO9BN181; Manufacturer_Name: Yageo; Vendor: Yageo America; Copyright: Copyright (C) 2018 Accelerated Designs. All rights reserved; RefDes: RefDes; TYPE: TYPE; Value: Value
footprint 0603
pins: 1, 2

## CDBK0520L-HF
designator ?
No Description Available; Manufacturer_Part_Number: CDBK0520L-HF; Io: 0.5; VRRM: 20.0; VFatIo: 0.385; Vendor: Comchip Technology; Datasheet_URL: http://www.comchiptech.com/cms/UserFiles/CDBK0520L%2DHF%2DRevB797958.pdf; Manufacturer_Name: Comchip Technology; Copyright: Copyright (C) 2018 Accelerated Designs. All rights reserved; RefDes: RefDes; Type: DEV; Value: Value
footprint SOD-123F
pins: 1 K, 2 A

## CDBK0540-HF
designator ?
No Description Available; Manufacturer_Part_Number: CDBK0540-HF; Vendor: Comchip Technology; Manufacturer_Name: Comchip Technology; Copyright: Copyright (C) 2018 Accelerated Designs. All rights reserved; RefDes: RefDes; TYPE: TYPE; Value: Value
footprint SOD-123F
pins: 1 K, 2 A

## CEM-1212S
designator *  Supplier Part Number 1: 102-1156-ND
AUDIO MAGNETIC XDCR 6-16V TH; Manufacturer: CUI Inc.; Manufacturer Part Number: CEM-1212S; Driver Circuitry: Transducer, Externally Driven; Input Type: Zero-Peak Signal; Voltage - Rated: 12V; Voltage Range: 6 ~ 16V; Frequency: 2.4kHz; Operating Mode: Single Tone; Sound Pressure Level: 85dB @ 12V, 10cm; Current - Supply: 40mA; Port Location: Top; Ratings: Washable; Supplier 1: Digi-Key; RoHS: RoHS Compliant; Category: Audio Products; Stock 1: 21467; Pricing 1: 1=1.31, 10=1.018, 100=0.7763, 500=0.621, 1000=0.552, 2500=0.45885 (USD); Packaging: Bulk; Part Status: Active; Technology: Magnetic; Duration: -; Operating Temperature: -20°C ~ 60°C; Approvals: -; Mounting Type: Through Hole; Termination: PC Pins; Size / Dimension: 12.0mm Dia x 10.0mm H; Height - Seated (Max): *; ComponentLink1URL: http://www.cui.com/product/resource/digikeypdf/cem-1212s.pdf; ComponentLink1Description: http://www.cui.com/product/resource/digikeypdf/cem-1212s.pdf
footprint CEM-1212S
pins: 1 V+, 2 V-

## CGA2B3X7R1H103K0
designator ?
No Description Available; Manufacturer_Part_Number: CGA2B3X7R1H103K050BB; Vendor: TDK; Manufacturer_Name: TDK; Copyright: Copyright (C) 2018 Accelerated Designs. All rights reserved; RefDes: RefDes; TYPE: TYPE; Value: Value
footprint 0402
pins: 1, 2

## CGA2B3X7R1H223K0
designator ?
No Description Available; Manufacturer_Part_Number: CGA2B3X7R1H223K050BB; Cap: 2.2E-8; ESR: 0.141987; IRMS: 0.451393; VDC: 50.0; Vendor: TDK; Datasheet_URL: https://product.tdk.com/en/search/capacitor/ceramic/mlcc/info?part%5Fno%3DCGA2B3X7R1H223K050BB; Manufacturer_Name: TDK; Copyright: Copyright (C) 2018 Accelerated Designs. All rights reserved; RefDes: RefDes; Type: DEV; Value: Value
footprint 0402
pins: 1, 2

## CGA3E2X7R1H104K0
designator ?
No Description Available; Manufacturer_Part_Number: CGA3E2X7R1H104K080AA; Cap: 1.0E-7; ESR: 0.0296; IRMS: 0.97199; VDC: 50.0; Vendor: TDK; Datasheet_URL: https://product.tdk.com/en/search/capacitor/ceramic/mlcc/info?part%5Fno%3DCGA3E2X7R1H104K080AA; Manufacturer_Name: TDK; Copyright: Copyright (C) 2018 Accelerated Designs. All rights reserved; RefDes: RefDes; Type: DEV; Value: Value
footprint 0603
pins: 1, 2

## CL10C221JB8NNNC
designator ?
No Description Available; Manufacturer_Part_Number: CL10C221JB8NNNC; Cap: 2.2E-10; ESR: 0.0; VDC: 50.0; Vendor: Samsung Electro-Mechanics; Datasheet_URL: http://www.samsungsem.com/servlet/FileDownload?type%3Dspec%26file%3DCL10C221JB8NNNC.pdf; IRMS: 0.0; Manufacturer_Name: Samsung Electro-Mechanics; Copyright: Copyright (C) 2018 Accelerated Designs. All rights reserved; RefDes: RefDes; Type: DEV; Value: Value
footprint 0603
pins: 1, 2

## CL21C221JBANNNC
designator ?
No Description Available; Manufacturer_Part_Number: CL21C221JBANNNC; Vendor: Samsung Electro-Mechanics; Manufacturer_Name: Samsung Electro-Mechanics; Copyright: Copyright (C) 2018 Accelerated Designs. All rights reserved; RefDes: RefDes; TYPE: TYPE; Value: Value
footprint 0805
pins: 1, 2

## CL21C471JBANNNC
designator ?
No Description Available; Manufacturer_Part_Number: CL21C471JBANNNC; Cap: 4.7E-10; ESR: 0.0; VDC: 50.0; Vendor: Samsung Electro-Mechanics; Datasheet_URL: http://www.samsungsem.com/servlet/FileDownload?type%3Dspec%26file%3DCL21C471JBANNNC.pdf; IRMS: 0.0; Manufacturer_Name: Samsung Electro-Mechanics; Copyright: Copyright (C) 2018 Accelerated Designs. All rights reserved; RefDes: RefDes; Type: DEV; Value: Value
footprint 0805
pins: 1, 2

## Component_1
designator *

## CONN D-SUB PLUG 37POS PNL MNT
designator P  Supplier Part Number 1: 40Y4705
37 Position D-Sub Plug; Part Number: 0436500203; Manufacturer: Molex; Datasheet: http://www.molex.com/pdm_docs/sd/436500203_sd.pdf; Supplier Part Number: WM1870-ND; Supplier: Digi-key; ComponentLink1Description: Digikey Kink; ComponentLink1URL: https://www.digikey.com/product-detail/en/norcomp-inc/171-037-103L001/237ME-ND/858153; Supplier 1: Newark
footprint 37-POS D-SUB (D-SUB- 37P, FEMALE, STRAIGHT, TH)
pins: 1 GND, 2 200uA, 3 FIO6, 4 FIO4, 5 FIO2, 6 FIO0, 7 MIO1, 8 GND, 9 VM-, 10 GND, 11 DAC0, 12 AIN13, 13 AIN11, 14 AIN9, 15 AIN7, 16 AIN5, 17 AIN3, 18 AIN1, 19 GND, 20 10uA, 21 FIO7, 22 FIO5, 23 FIO3, 24 FIO1, 25 MIO0, 26 MIO2, 27 VS, 28 VM+, 29 DAC1, 30 GND, 31 AIN12, 32 AIN10, 33 AIN8, 34 AIN6, 35 AIN4, 36 AIN2, 37 AIN0

## CONN RCPT MICRO USB AB R/A SMD
designator *
MicroUSB AB
footprint HRS_ZX62D-B-5P8
pins: 1 VCC (power), 2 D-, 3 D+, 4 NC, 5 GND

## CPC1002N
designator K?
SPST NO SSR, 700mA / 60Vdc rated CPC1002N; Nominal Resistance: 550 mOhm; Temp (C) (min): -40; Temp (C) (max): 85; Package: SOP-4; Datasheet URL: http://www.ixysic.com/home/pdfs.nsf/www/CPC1002N.pdf/$file/CPC1002N.pdf; Part Number: CPC1002N; Supplier 1: Digi-Key; Supplier Part Number 1: CLA221-ND
footprint SOP4 (used for CPC1117N NC SSR)
pins: 1 CTRL+, 2 CTRL-, 3 Load_3, 4 LOAD_4
text: NO

## CPC1002N_1
designator K?
SPST NO SSR, 700mA / 60Vdc rated CPC1002N; Nominal Resistance: 550 mOhm; Temp (C) (min): -40; Temp (C) (max): 85; Package: SOP-4; Datasheet URL: http://www.ixysic.com/home/pdfs.nsf/www/CPC1002N.pdf/$file/CPC1002N.pdf; Part Number: CPC1002N; Supplier 1: Digi-Key; Supplier Part Number 1: CLA221-ND
footprint SOP4 (used for CPC1117N NC SSR)
pins: 1 CTRL+, 2 CTRL-, 3 Load_3, 4 LOAD_4
text: NO

## CPC1008N
designator K?
SPST NO SSR, 150mA / 100V rated CPC1008N; Nominal Resistance: 8; Temp (C) (min): -40; Temp (C) (max): 85; Package: SOP-4; Datasheet URL: http://www.clare.com/home/pdfs.nsf/www/CPC1008N.pdf/$file/CPC1008N.pdf; Supplier 1: Digi-Key; Supplier Part Number 1: CLA216CT-ND; Part Number: CPC1008N
footprint SOP4 (used for CPC1117N NC SSR)
pins: 1 CTRL+, 2 CTRL-, 3 Load_3, 4 LOAD_4
text: NO

## CPC1008N_1
designator K?
SPST NO SSR, 150mA / 100V rated CPC1008N; Nominal Resistance: 8; Temp (C) (min): -40; Temp (C) (max): 85; Package: SOP-4; Datasheet URL: http://www.clare.com/home/pdfs.nsf/www/CPC1008N.pdf/$file/CPC1008N.pdf; Supplier 1: Digi-Key; Supplier Part Number 1: CLA216CT-ND; Part Number: CPC1008N
footprint SOP4 (used for CPC1117N NC SSR)
pins: 1 CTRL+, 2 CTRL-, 3 Load_3, 4 LOAD_4
text: NO

## CPC1117NTR
designator K?
SPST NC SSR, 150mA / 60V rated CPC1117NTR; Nominal Resistance: 16; Temp (C) (min): -40; Temp (C) (max): 85; Package: SOP-4; Datasheet URL: http://www.clare.com/home/pdfs.nsf/www/CPC1117N.pdf/$file/CPC1117N.pdf; Supplier 1: Digi-Key; Supplier Part Number 1: CLA268CT-ND; Part Number: CPC1117NTR
footprint SOP4 (used for CPC1117N NC SSR)
pins: 1 CTRL+, 2 CTRL-, 3 Load_3, 4 LOAD_4
text: NC

## CPC1117NTR_1
designator K?
SPST NC SSR, 150mA / 60V rated CPC1117NTR; Nominal Resistance: 16; Temp (C) (min): -40; Temp (C) (max): 85; Package: SOP-4; Datasheet URL: http://www.clare.com/home/pdfs.nsf/www/CPC1117N.pdf/$file/CPC1117N.pdf; Supplier 1: Digi-Key; Supplier Part Number 1: CLA268CT-ND; Part Number: CPC1117NTR
footprint SOP4 (used for CPC1117N NC SSR)
pins: 1 CTRL+, 2 CTRL-, 3 Load_3, 4 LOAD_4
text: NC

## CRCW04022K00FKED
designator ?
No Description Available; Manufacturer_Part_Number: CRCW04022K00FKED; Vendor: Vishay-Dale; Manufacturer_Name: Vishay-Dale; Copyright: Copyright (C) 2018 Accelerated Designs. All rights reserved; RefDes: RefDes; TYPE: TYPE; Value: Value
footprint 0402
pins: 1, 2

## CRCW04025K90FKED
designator ?
No Description Available; Manufacturer_Part_Number: CRCW04025K90FKED; Resistance: 5900.0; Power: 0.063; Tolerance: 1.0; Vendor: Vishay-Dale; Manufacturer_Name: Vishay-Dale; Copyright: Copyright (C) 2018 Accelerated Designs. All rights reserved; RefDes: RefDes; Type: DEV; Value: Value
footprint 0402
pins: 1, 2

## CRCW06032K00FKEA
designator ?
No Description Available; Manufacturer_Part_Number: CRCW06032K00FKEA; Resistance: 2000.0; Power: 0.1; Tolerance: 1.0; Vendor: Vishay-Dale; Manufacturer_Name: Vishay-Dale; Copyright: Copyright (C) 2018 Accelerated Designs. All rights reserved; RefDes: RefDes; Type: DEV; Value: Value
footprint 0603
pins: 1, 2

## CRCW040210K5FKED
designator ?
No Description Available; Manufacturer_Part_Number: CRCW040210K5FKED; Vendor: Vishay-Dale; Manufacturer_Name: Vishay-Dale; Copyright: Copyright (C) 2018 Accelerated Designs. All rights reserved; RefDes: RefDes; TYPE: TYPE; Value: Value
footprint 0402
pins: 1, 2

## CRCW040223K2FKED
designator ?
No Description Available; Manufacturer_Part_Number: CRCW040223K2FKED; Resistance: 23200.0; Power: 0.063; Tolerance: 1.0; Vendor: Vishay-Dale; Manufacturer_Name: Vishay-Dale; Copyright: Copyright (C) 2018 Accelerated Designs. All rights reserved; RefDes: RefDes; Type: DEV; Value: Value
footprint 0402
pins: 1, 2

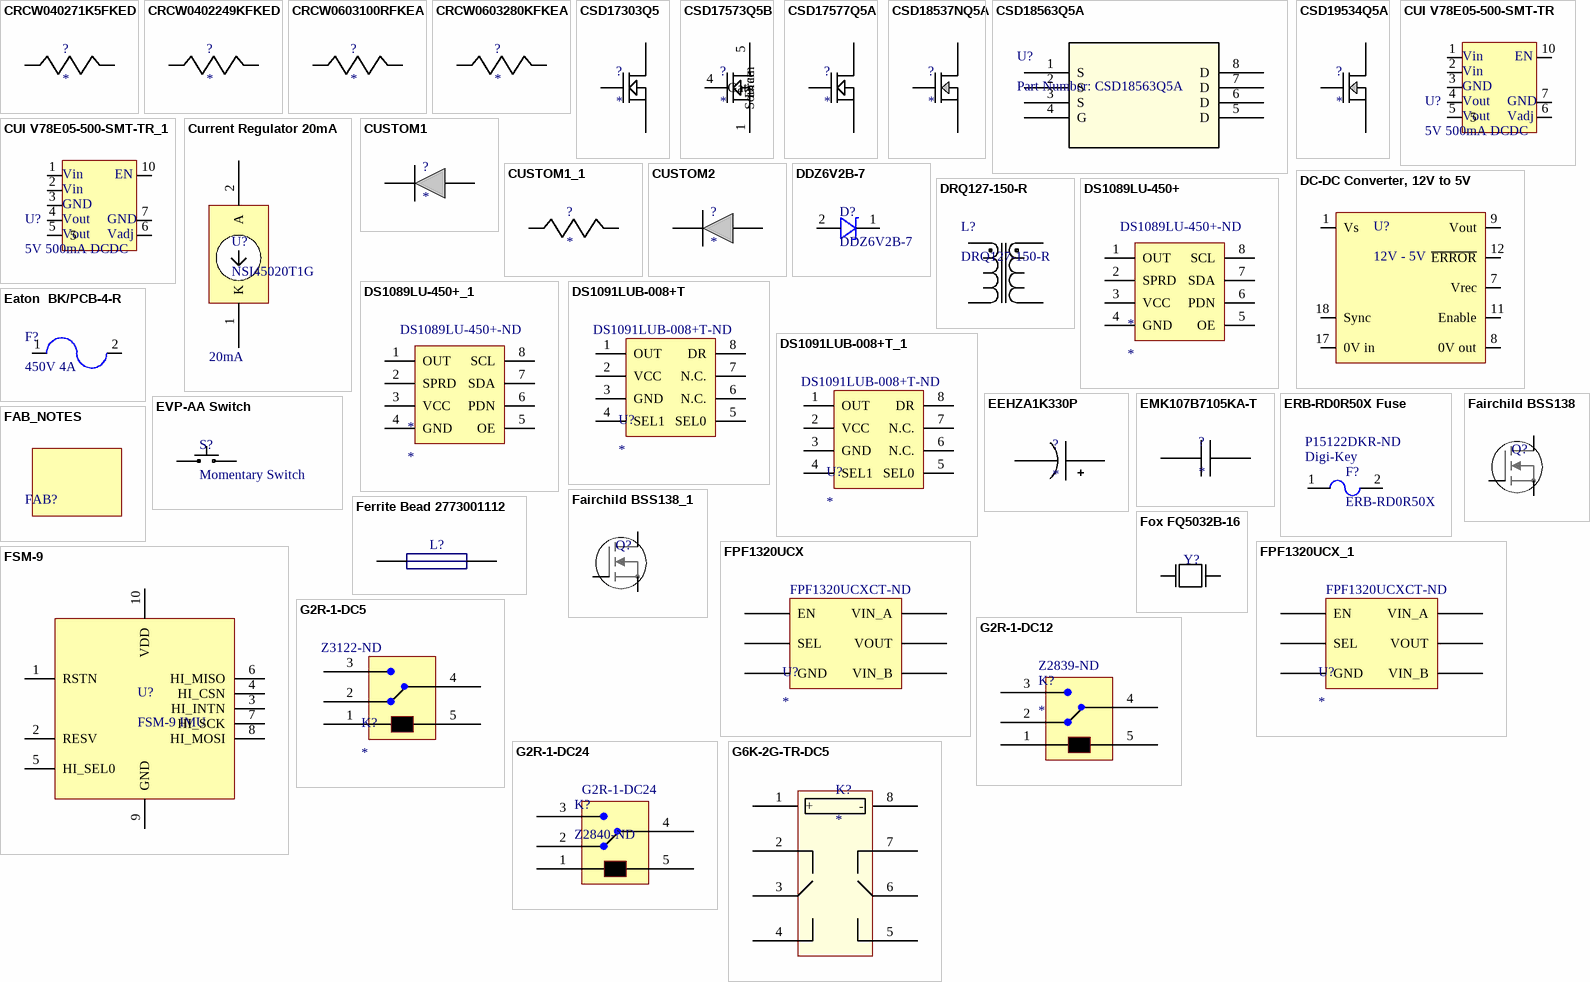
[diagram p5: symbols CRCW040271K5FKED to G6K-2G-TR-DC5]

## CRCW040271K5FKED
designator ?
No Description Available; Manufacturer_Part_Number: CRCW040271K5FKED; Resistance: 71500.0; Power: 0.063; Tolerance: 1.0; Vendor: Vishay-Dale; Manufacturer_Name: Vishay-Dale; Copyright: Copyright (C) 2018 Accelerated Designs. All rights reserved; RefDes: RefDes; Type: DEV; Value: Value
footprint 0402
pins: 1, 2

## CRCW0402249KFKED
designator ?
No Description Available; Manufacturer_Part_Number: CRCW0402249KFKED; Resistance: 249000.0; Power: 0.063; Tolerance: 1.0; Vendor: Vishay-Dale; Manufacturer_Name: Vishay-Dale; Copyright: Copyright (C) 2018 Accelerated Designs. All rights reserved; RefDes: RefDes; Type: DEV; Value: Value
footprint 0402
pins: 1, 2

## CRCW0603100RFKEA
designator ?
No Description Available; Manufacturer_Part_Number: CRCW0603100RFKEA; Resistance: 100.0; Power: 0.1; Tolerance: 1.0; Vendor: Vishay-Dale; Manufacturer_Name: Vishay-Dale; Copyright: Copyright (C) 2018 Accelerated Designs. All rights reserved; RefDes: RefDes; Type: DEV; Value: Value
footprint 0603
pins: 1, 2

## CRCW0603280KFKEA
designator ?
No Description Available; Manufacturer_Part_Number: CRCW0603280KFKEA; Resistance: 280000.0; Power: 0.1; Tolerance: 1.0; Vendor: Vishay-Dale; Manufacturer_Name: Vishay-Dale; Copyright: Copyright (C) 2018 Accelerated Designs. All rights reserved; RefDes: RefDes; Type: DEV; Value: Value
footprint 0603
pins: 1, 2

## CSD17303Q5
designator ?
No Description Available; Manufacturer_Part_Number: CSD17303Q5; VdsMax: 30.0; IdsMax: 100.0; Rdson45: 0.002; QgTyp: 18.0; Vendor: Texas Instruments; Datasheet_URL: http://www.ti.com/lit/ds/symlink/csd17303q5.pdf; Quantity: 1; Manufacturer_Name: Texas Instruments; Copyright: Copyright (C) 2018 Accelerated Designs. All rights reserved; RefDes: RefDes; Type: DEV; Value: Value
footprint TRANS_NexFET_Q5
pins: 1 Source, 2 Source, 3 Source, 4 Gate, 5 Drain, 6 Drain, 7 Drain, 8 Drain, 9 Drain

## CSD17573Q5B
designator ?
No Description Available; Manufacturer_Part_Number: CSD17573Q5B; VdsMax: 30.0; IdsMax: 100.0; Rdson45: 0.0014; QgTyp: 49.0; Vendor: Texas Instruments; Datasheet_URL: http://www.ti.com/lit/ds/symlink/csd17573q5b.pdf; Quantity: 1; Manufacturer_Name: Texas Instruments; Copyright: Copyright (C) 2018 Accelerated Designs. All rights reserved; RefDes: RefDes; Type: DEV; Value: Value
footprint DNK0008A
footprint TRANS_NexFET_Q5
pins: 1 Source, 2 Source, 3 Source, 4 Gate, 5 Drain, 6 Drain, 7 Drain, 8 Drain, 9 Drain

## CSD17577Q5A
designator ?
No Description Available; Manufacturer_Part_Number: CSD17577Q5A; Vendor: Texas Instruments; Manufacturer_Name: Texas Instruments; Copyright: Copyright (C) 2018 Accelerated Designs. All rights reserved; RefDes: RefDes; TYPE: TYPE; Value: Value
footprint TRANS_NexFET_Q5A
pins: 1 Source, 2 Source, 3 Source, 4 Gate, 5 Drain, 6 Drain, 7 Drain, 8 Drain, 9 Drain

## CSD18537NQ5A
designator ?
No Description Available; Manufacturer_Part_Number: CSD18537NQ5A; VdsMax: 60.0; IdsMax: 50.0; Rdson45: 0.014559; QgTyp: 14.0; Vendor: Texas Instruments; Datasheet_URL: http://www.ti.com/lit/ds/symlink/csd18537nq5a.pdf; Quantity: 1; Manufacturer_Name: Texas Instruments; Copyright: Copyright (C) 2018 Accelerated Designs. All rights reserved; RefDes: RefDes; TYPE: TYPE; Value: Value
footprint TRANS_NexFET_Q5A
pins: 1 Source, 2 Source, 3 Source, 4 Gate, 5 Drain, 6 Drain, 7 Drain, 8 Drain, 9 Drain

## CSD18563Q5A
designator U?, comment Part Number: CSD18563Q5A
No Description Available; Vendor: Texas Instruments; Built_By: EMA_UL_Team; Manufacturer_Part_Number: CSD18563Q5A; Copyright: Copyright (C) 2018 Accelerated Designs. All rights reserved; RefDes: RefDes; Type: DEV; Value: Value
footprint DQJ8
pins: 1 S, 2 S, 3 S, 4 G, 5 D, 6 D, 7 D, 8 D

## CSD19534Q5A
designator ?
No Description Available; Manufacturer_Part_Number: CSD19534Q5A; VdsMax: 100.0V; IdsMax: 10.0A; Rdsonat10V: 0.012Ohm; QgTyp: 17nC; Vendor: Texas Instruments; Datasheet_URL: http://www.ti.com/lit/ds/symlink/CSD19534Q5A.pdf; Quantity: 1; Manufacturer_Name: Texas Instruments; Copyright: Copyright (C) 2018 Accelerated Designs. All rights reserved; RefDes: RefDes; Type: DEV; Value: Value
footprint TRANS_NexFET_Q5A
pins: 1 Source, 2 Source, 3 Source, 4 Gate, 5 Drain, 6 Drain, 7 Drain, 8 Drain, 9 Drain

## CUI V78E05-500-SMT-TR
designator U?, comment 5V 500mA DCDC
5V 500mA DCDC Module; ComponentLink1Description: digikey; ComponentLink1URL: https://www.digikey.com/product-detail/en/cui-inc/V78E05-500-SMT-TR/102-5025-1-ND/9649676
footprint V78E05-500-SMT-TR
pins: 1, 2, 3, 4, 5, 6, 7, 10
text: Vin; EN; GND; Vout; Vadj

## CUI V78E05-500-SMT-TR_1
designator U?, comment 5V 500mA DCDC
5V 500mA DCDC Module; ComponentLink1Description: digikey; ComponentLink1URL: https://www.digikey.com/product-detail/en/cui-inc/V78E05-500-SMT-TR/102-5025-1-ND/9649676
footprint V78E05-500-SMT-TR
pins: 1, 2, 3, 4, 5, 6, 7, 10
text: Vin; EN; GND; Vout; Vadj

## Current Regulator 20mA
designator U?, comment NSI45020T1G  Current: 20mA
20mA Current regulator SOD-123. 208mW; Manufacturer: ON Semiconductor; Supplier 1: Digi-Key; Supplier Part Number 1: NSI45020T1GOSTR-ND; Manufacturer Part Number: NSI45020T1G; Datasheet: http://www.onsemi.com/pub_link/Collateral/NSI45020-D.PDF
footprint NSI45020 (SOD-123 Package Constant Current Regulator, 20mA)
pins: 1 K, 2 A

## CUSTOM1
designator ?
No Description Available; Manufacturer_Part_Number: GENERIC_DIODE; Part_Number: CUSTOM; Part_ID: 18; Io: 0; Vendor: Unknown; Io: 0.2; Component_Type_Index: 40; RJA: 0.0; Thermal_Status: N; Schematic_mapping_symbol: WB_DIODE; Component_Type: Diode; VRRM: 60.0; VFatIo: 0.5; TYPE_2: TYPE; VRRM: 0; VFatIo: 0; Footprint: 0.00; Thermal_ID: CUSTOM; Mount: ?; RJC: 0.0; Trr: 0.0; Tj: 0.0; Dimension_X: 0.0; Dimension_Y: 0.0; Height: 0.0; Price: 0.0; Quantity: 1; Quantity_In_stock: 0; Type: DEV; Manufacture: CUSTOM; Package: ?; Manufacturer_Name: CUSTOM; Copyright: Copyright (C) 2018 Accelerated Designs. All rights reserved; RefDes: RefDes; Value: Value
footprint GEN_Diode
pins: 1 K, 2 A

## CUSTOM1_1
designator ?
No Description Available; Part_Number: CUSTOM; Part_ID: 18; Manufacturer_Part_Number: CUSTOM1; DCVolt: 0.0; Component_Type_Index: 10; Thermal_Status: N; Schematic_mapping_symbol: WB_RESISTOR; Component_Type: Resistor; Resistance: 0.0036479779411764707; Value: Value; Footprint: 0.00; Thermal_ID: CUSTOM; Mount: ?; Technology: ?; Dimension_X: 0.0; Dimension_Y: 0.0; Height: 0.0; Price: 0.0; Tolerance: 0.0; Quantity: 1; Quantity_In_stock: 0; Series: ?; Manufacture: CUSTOM; Power: 0.0; Manufacturer_Name: CUSTOM; Copyright: Copyright (C) 2018 Accelerated Designs. All rights reserved; RefDes: RefDes; TYPE: TYPE
pins: 1, 2

## CUSTOM2
designator ?
No Description Available; Manufacturer_Part_Number: GENERIC_DIODE; Part_Number: CUSTOM; Part_ID: 18; Io: 0; Vendor: Unknown; Io: 0.2; Component_Type_Index: 40; RJA: 0.0; Thermal_Status: N; Schematic_mapping_symbol: WB_DIODE; Component_Type: Diode; VRRM: 60.0; VFatIo: 0.5; TYPE_2: TYPE; VRRM: 0; VFatIo: 0; Footprint: 0.00; Thermal_ID: CUSTOM; Mount: ?; RJC: 0.0; Trr: 0.0; Tj: 0.0; Dimension_X: 0.0; Dimension_Y: 0.0; Height: 0.0; Price: 0.0; Quantity: 1; Quantity_In_stock: 0; Type: DEV; Manufacture: CUSTOM; Package: ?; Manufacturer_Name: CUSTOM; Copyright: Copyright (C) 2018 Accelerated Designs. All rights reserved; RefDes: RefDes; Value: Value
footprint GEN_Diode
pins: 1 K, 2 A

## DC-DC Converter, 12V to 5V
designator U?, comment 12V - 5V
DigiKey 296-9458-5-ND
footprint NVE (R-PDIP-T10/18)
pins: 1 Vs, 7 Vrec, 8 0V out, 9 Vout, 11 Enable, 12 ~{ERROR}, 17 0V in, 18 Sync

## DDZ6V2B-7
designator D?
DIODE ZENER 6.2V 500MW SOD123; Supplier: DigiKey; Part Number: DDZ6V2B-7; Datasheet URL: https://www.diodes.com/assets/Datasheets/ds30407.pdf; Supplier Part Number: DDZ6V2BDICT-ND
footprint DDZ6V2B-7
pins: 1 NPNB, 2 NPNB

## DRQ127-150-R
designator L?
No Description Available; Mfr_Name: Eaton; Type: DEV; Copyright: Copyright (C) 2022 Ultra Librarian. All rights reserved.; Manufacturer_Part_Number: DRQ127-150-R; Digi-Key_Part_Number_1: 513-1144-1-ND; Digi-Key_Part_Number_2: 513-1144-2-ND; Digi-Key_Part_Number_3: 513-1144-2-NDL; Digi-Key_Part_Number_4: 513-1144-6-ND; RefDes: RefDes
footprint DRQ127
pins: 1, 2, 3, 4

## DS1089LU-450+
designator *  Supplier Part Number 1: DS1089LU-450+-ND
IC ECONOSCILL 3.3V SS 8-USOP; Manufacturer: Maxim Integrated; Manufacturer Part Number: DS1089LU-450+; PLL: No; Input: Clock; Number of Circuits: 1; Ratio - Input:Output: 1:1; Differential - Input:Output: No/No; Frequency - Max: 50MHz; Divider/Multiplier: Yes/No; Voltage - Supply: 2.7 V ~ 3.6 V; Supplier 1: Digi-Key; RoHS: RoHS Compliant; Category: Integrated Circuits (ICs); Stock 1: 43; Pricing 1: 1=1.86, 10=1.767, 25=1.46, 50=1.387, 250=1.33948, 1000=1.13832 (USD); Packaging: Tube; Part Status: Active; Type: Clock Generator; Output: Clock; Operating Temperature: -40°C ~ 85°C; Mounting Type: Surface Mount; Package / Case: 8-TSSOP, 8-MSOP (0.118", 3.00mm Width); Supplier Device Package: 8-uMAX; ComponentLink1URL: http://datasheets.maximintegrated.com/en/ds/DS1089L.pdf; ComponentLink1Description: http://datasheets.maximintegrated.com/en/ds/DS1089L.pdf
footprint TSOP65P490X110-8L (TSOP, 8-Leads, Body 3.00x3.00mm, Pitch 0.65mm, IPC High Density)
pins: 1 OUT, 2 SPRD, 3 VCC, 4 GND, 5 OE, 6 PDN, 7 SDA, 8 SCL